# EAGLE library part 7_SEGMENT (library icmi-leds)
Kingbright DA04-11 (common anode) 10mm Dual Digit Numeric Display, common anode
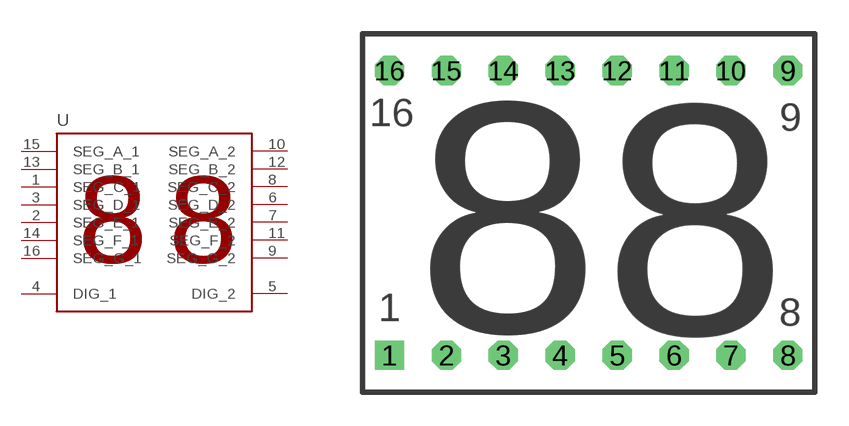
[diagram p0: symbol with the pads of KINGBRIGHT_DX04; footprint KINGBRIGHT_DX04]

Designator prefix -

## 7_SEGMENT-KB-DA04  [KINGBRIGHT_DX04]
1  SEG_C_1
2  SEG_E_1
3  SEG_D_1
4  DIG_1
5  DIG_2
6  SEG_D_2
7  SEG_E_2
8  SEG_C_2
9  SEG_G_2
10  SEG_A_2
11  SEG_F_2
12  SEG_B_2
13  SEG_B_1
14  SEG_F_1
15  SEG_A_1
16  SEG_G_1

## Footprint KINGBRIGHT_DX04 (pad centres in mm)
Package for Kingbright Dx04 2-digit 7-segment display This package is used for older Kingbright seven-segment display with two digits. The package does seem to feature two decimal points, but they are not connected to any pin.
drill 0.8 square: 1 -5.08,-7.62
drill 0.8 octagon: 2 -2.54,-7.62; 3 0,-7.62; 4 2.54,-7.62; 5 5.08,-7.62; 6 7.62,-7.62; 7 10.16,-7.62; 8 12.7,-7.62; 9 12.7,5.08; 10 10.16,5.08; 11 7.62,5.08; 12 5.08,5.08; 13 2.54,5.08; 14 0,5.08; 15 -2.54,5.08; 16 -5.08,5.08